# Altium footprint library 3.PcbLib: 9 footprints
Each footprint in its own frame and in the unit in brackets; x right, y up, seen from the top. Pads: shape width x height; smd on the part's side, far side on the other; paste and mask are expansions set on the pad; w line width, h text height; cw(c..) or ccw(c..) is an arc to the next point about the centre after c.
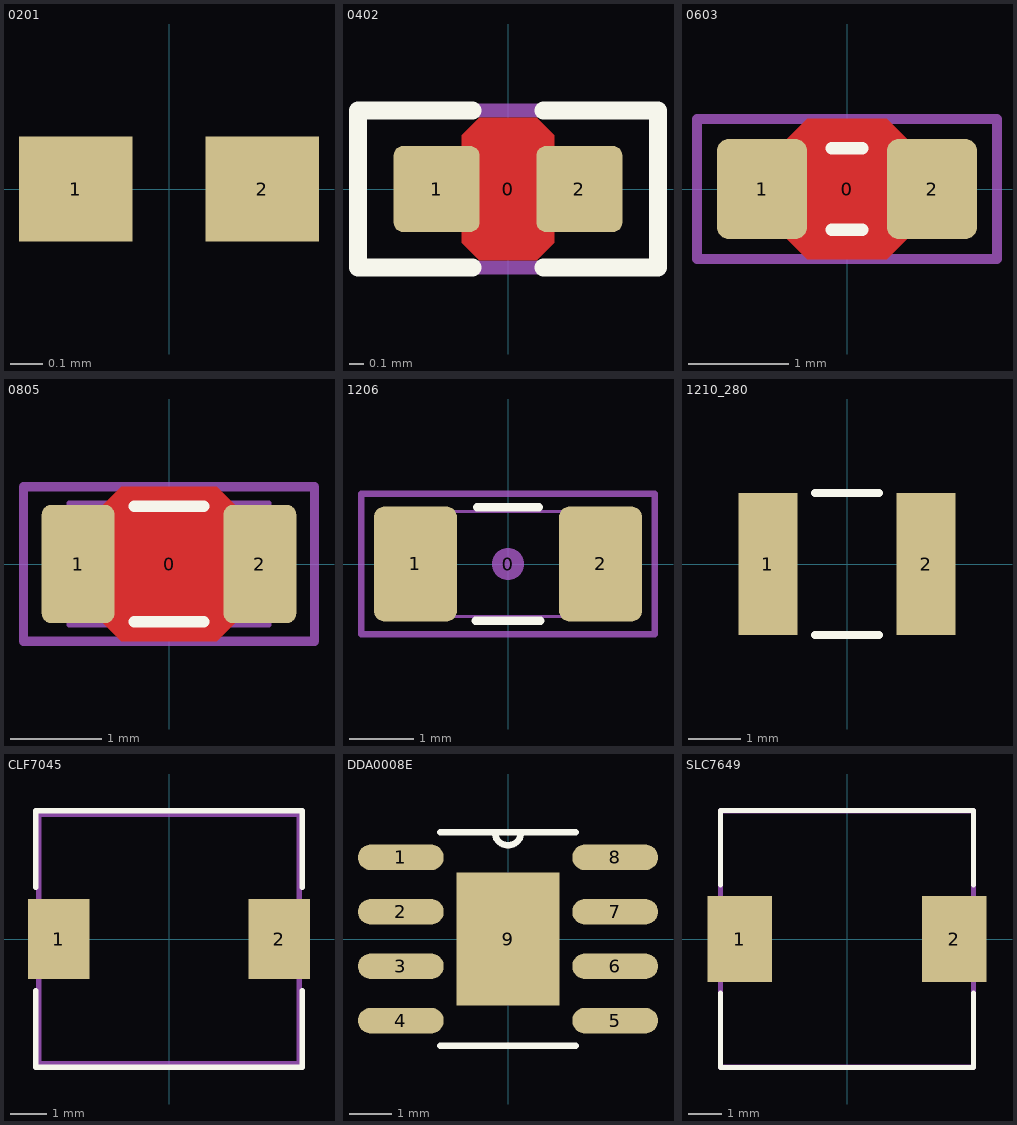
[diagram p0: the footprints below, top view; thin cyan lines are the x and y axes]

## 0201 [mil]
pads (2):
  rect 14x13 smd: 1(-11.5,0) 2(11.5,0)

## 0402 [mm] "Chip Resistor, Body 1.0x0.5mm, EIA 0402, IPC Medium Density"
height 0.4
pads (3):
  round 0.2 on Mech15: 0(0,0)
  rrect20% 0.6x0.6 smd: 1(-0.5,0) 2(0.5,0)
Top Layer:
  pour cut-out: -0.325,0.375 -0.2,0.5 0.2,0.5 0.325,0.375 0.325,-0.375 0.2,-0.5 -0.2,-0.5 -0.325,-0.375
Top Overlay:
  lines w0.127: -0.25,-0.55 -1.05,-0.55 -1.05,0.55 -0.25,0.55 ; 0.25,-0.55 1.05,-0.55 1.05,0.55 0.25,0.55
Mechanical 13:
  lines w0.05: 0.225,-0.274 -0.225,-0.274 0.225,-0.274 ; -0.525,-0.275 -0.225,-0.275 -0.225,0.275 -0.525,0.275 -0.525,-0.275 ; -0.225,0.274 0.225,0.274 -0.225,0.274 ; 0.225,-0.275 0.225,0.275 0.525,0.275 0.525,-0.275 0.225,-0.275
Mechanical 15:
  lines w0.1: -1.05,-0.55 1.05,-0.55 1.05,0.55 -1.05,0.55 -1.05,-0.55
3D body "RES 0402 (1005 metric).STEP": height 0.4, standoff 0, extent -0.525,-0.275 0.525,0.275

## 0603 [mm] "Chip Resistor, Body 1.6x0.8mm, EIA 0603, IPC Medium Density"
height 0.55
pads (3):
  round 0.254 on Mech15: 0(0,0)
  rrect25% 0.9x1 smd: 1(-0.85,0) 2(0.85,0)
Top Layer:
  pour cut-out: -0.6,0.5 -0.4,0.7 0.4,0.7 0.6,0.5 0.6,-0.5 0.4,-0.7 -0.4,-0.7 -0.6,-0.5
Top Overlay:
  lines w0.127: -0.152,-0.406 0.152,-0.406 ; -0.152,0.406 0.152,0.406
Mechanical 13:
  lines w0.05: -0.875,-0.475 -0.475,-0.475 -0.475,0.475 -0.875,0.475 -0.875,-0.475 ; -0.475,-0.474 0.475,-0.474 -0.475,-0.474 ; -0.475,0.474 0.475,0.474 -0.475,0.474 ; 0.475,-0.475 0.475,0.475 0.875,0.475 0.875,-0.475 0.475,-0.475
Mechanical 15:
  lines w0.1: -1.5,-0.7 -1.5,0.7 1.5,0.7 1.5,-0.7 -1.5,-0.7
3D body "RES 0603 (1608 metric).STEP": height 0.54, standoff -0.01, extent -0.875,-0.475 0.875,0.475

## 0805 [mm] "Chip Resistor, Body 2.0x1.2mm, EIA 0805, IPC Medium Density"
height 0.7
pads (3):
  round 0.254 on Mech15: 0(0,0)
  rrect25% 0.8x1.3 smd: 1(-1,0) 2(1,0)
Top Layer:
  pour cut-out: -0.725,0.65 -0.525,0.85 0.525,0.85 0.725,0.65 0.725,-0.65 0.525,-0.85 -0.525,-0.85 -0.725,-0.65
Top Overlay:
  lines w0.127: -0.381,-0.635 0.381,-0.635 ; -0.381,0.635 0.381,0.635
Mechanical 13:
  lines w0.05: 0.6,-0.674 -0.6,-0.674 ; -0.6,-0.674 0.6,-0.674 ; -0.6,-0.675 -1.1,-0.675 -1.1,0.675 -0.6,0.675 -0.6,-0.675 ; 0.6,-0.675 1.1,-0.675 1.1,0.675 0.6,0.675 ; 0.6,-0.675 0.6,0.675 ; 0.6,0.674 -0.6,0.674 0.6,0.674
Mechanical 15:
  lines w0.1: -1.6,-0.85 -1.6,0.85 1.6,0.85 1.6,-0.85 -1.6,-0.85
3D body "RES 0805 (2012 metric).STEP": height 0.69, standoff -0.01, extent -1.1,-0.675 1.1,0.675

## 1206 [mm] "Chip Resistor, Body 3.2x1.6mm, EIA 1206, IPC Medium Density"
height 0.7
pads (3):
  round 0.508 on Mech15: 0(0,0)
  rrect25% 1.3x1.8 smd: 1(-1.45,0) 2(1.45,0)
Top Overlay:
  lines w0.127: -0.508,-0.889 0.508,-0.889 ; -0.483,0.889 0.483,0.889
Mechanical 13:
  lines w0.05: 1.025,-0.824 -1.025,-0.824 1.025,-0.824 ; -1.625,-0.825 -1.025,-0.825 -1.025,0.825 -1.625,0.825 -1.625,-0.825 ; -1.025,0.824 1.025,0.824 -1.025,0.824 ; 1.025,-0.825 1.025,0.825 1.625,0.825 1.625,-0.825 1.025,-0.825
Mechanical 15:
  lines w0.1: -2.3,-1.1 -2.3,1.1 2.3,1.1 2.3,-1.1 -2.3,-1.1
3D body "RES 1206 (3216 metric).STEP": height 0.69, standoff -0.01, extent -1.625,-0.825 1.625,0.825

## 1210_280 [mil]
pads (2):
  rect 44x106 smd: 1(-59,0) 2(59,0)
Top Overlay:
  lines w6: -23.9,-53 23.9,-53 ; -23.9,53 23.9,53
3D body "User Library-CAPC3225.step": height 98.43, standoff 0, extent -62.99,-49.21 63,49.22

## CLF7045 [mil]
pads (2):
  rect 67x87 smd: 1(-120,0) 2(120,0)
Top Overlay:
  lines w6: -145.5,-56.6 -145.5,-140 145.5,-140 145.5,-56.6 ; -145.5,56.6 -145.5,140 145.5,140 145.5,56.6
Mechanical 13:
  lines w6: -141.73,-135.83 141.73,-135.83 141.73,135.83 -141.73,135.83 -141.73,-135.83
3D body: height 212.6, standoff 0, extent -141.71,-135.81 141.71,135.81

## DDA0008E [mm]
pads (9):
  oval 2x0.6 smd paste-0.102 mask+0.051: 1(-2.5,1.905) 2(-2.5,0.635) 3(-2.5,-0.635) 4(-2.5,-1.905) 5(2.5,-1.905) 6(2.5,-0.635) 7(2.5,0.635) 8(2.5,1.905)
  rect 2.4x3.1 smd paste-0.102 mask+0.051: 9(0,0)
Top Overlay:
  lines w0.152: -1.577,-2.489 1.577,-2.489 ; -1.577,2.489 1.577,2.489 ; -0.305,2.489 ccw(c0,2.489) 0.305,2.489
3D body "SOIC-8.STEP": height 1.75, standoff 0, extent -3,-2.45 3,2.45

## SLC7649 [mm]
pads (2):
  rect 1.905x2.54 smd: 1(-3.175,0) 2(3.175,0)
Top Overlay:
  lines w0.152: -3.746,-1.603 -3.746,-3.81 3.746,-3.81 3.746,-1.603 ; -3.746,1.603 -3.746,3.81 3.746,3.81 3.746,1.603
Mechanical 13:
  lines w0.152: -3.75,-3.8 3.75,-3.8 3.75,-1.6 3.75,3.8 -3.75,3.8 -3.75,-3.8
3D body: height 4.95, standoff 0, extent -3.749,-3.799 3.749,3.799